# Altium schematic symbol library Howard.SchLib: 217 symbols (part 2 of 5)
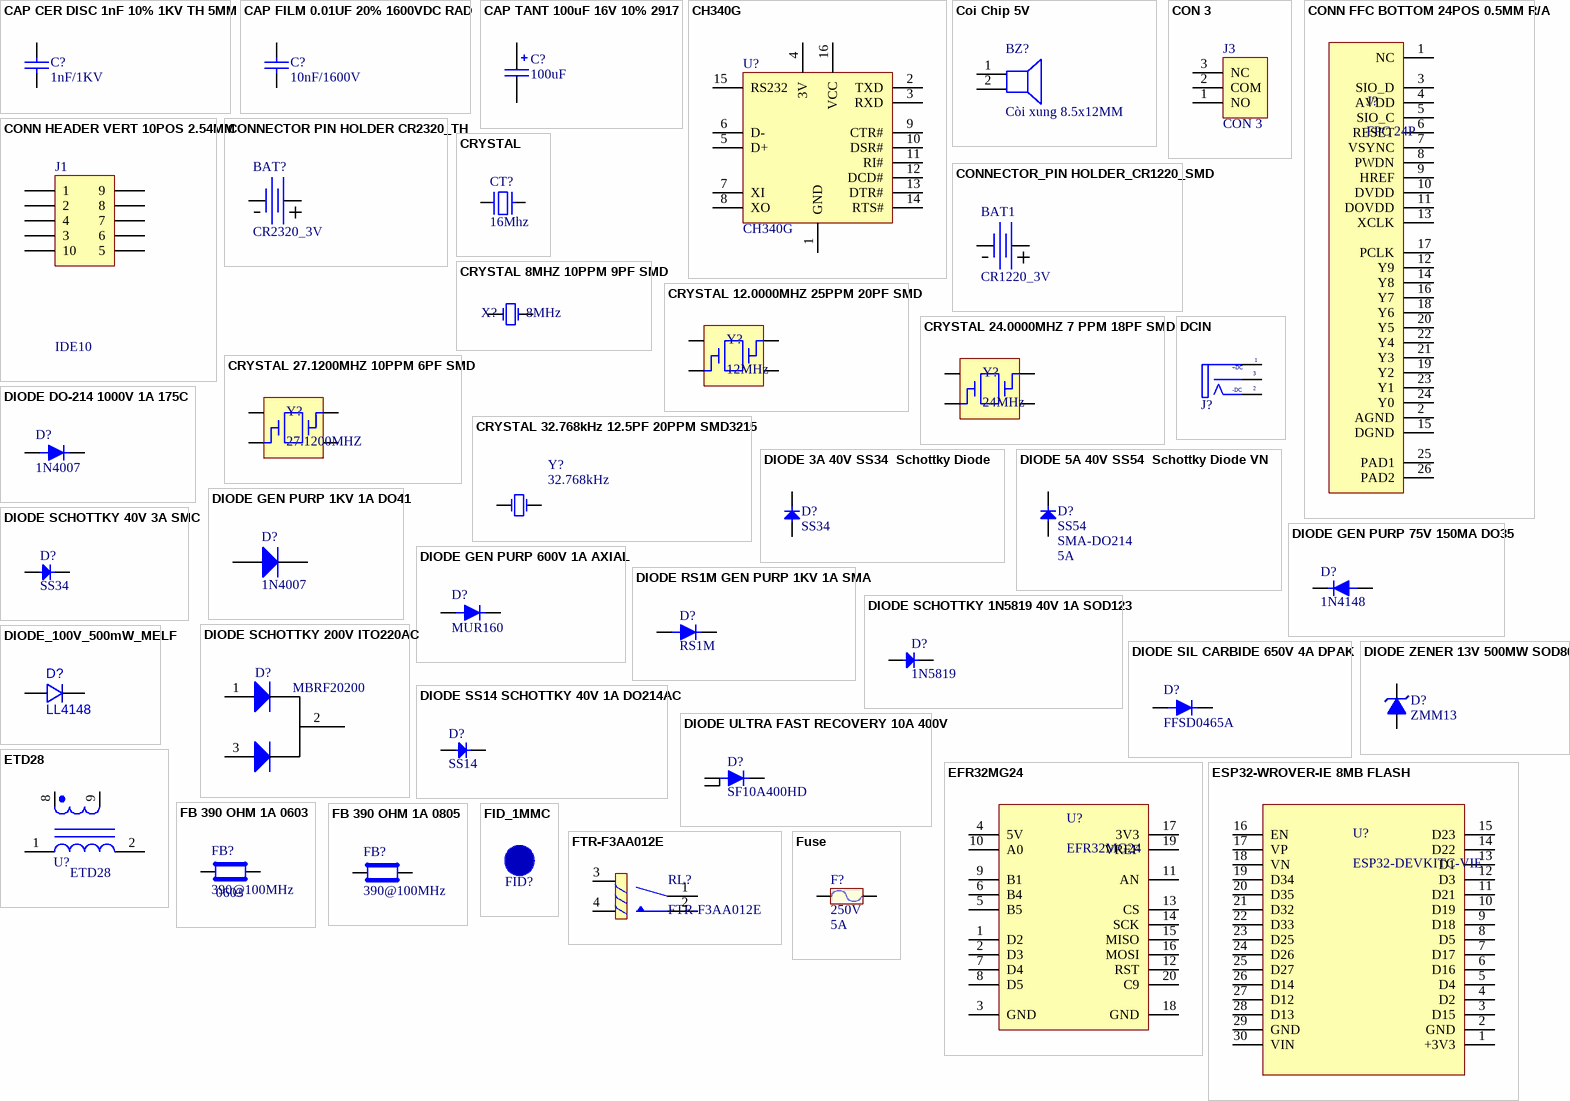
[diagram p8: symbols CAP CER DISC 1nF 10% 1KV TH 5MM to Fuse]

## CRYSTAL 12.0000MHZ 25PPM 20PF SMD
designator Y?, comment 12MHz
Crystal 12MHz ±25ppm (Tol) ±50ppm (Stability) 20pF FUND 100Ohm 4-Pin Mini-CSMD T/R; Manufacturer: ECS International; Manufacturer Part Number: ECS-120-20-33-AEL-TR; Supplier 1: Digi-Key; Stock 1: 58874; Pricing 1: 1=0.37, 10=0.306, 50=0.275, 100=0.2444, 500=0.2322 (USD); RoHS Compliant: Yes; ComponentLink1URL: http://www.ecsxtal.com/store/pdf/ecx-32.pdf?src-supplier=Digi-Key; ComponentLink1Description: http://www.ecsxtal.com/store/pdf/ecx-32.pdf?src-supplier=Digi-Key; ComponentLink2URL: https://ecsxtal.com/store/pdf/ecx-32.pdf?src-supplier=Digi-Key; ComponentLink2Description: https://ecsxtal.com/store/pdf/ecx-32.pdf?src-supplier=Digi-Key; Supplier Part Number 1: XC2911CT-ND
footprint CRYSTALL_SMD_3225
pins: 1, 2, 3, 4

## CRYSTAL 24.0000MHZ 7 PPM 18PF SMD
designator Y?, comment 24MHz
Crystal 24MHz ±7ppm (Tol) ±10ppm (Stability) 18pF FUND 40Ohm 4-Pin Mini-CSMD T/R; Manufacturer: ECS International; Manufacturer Part Number: ECS-240-18-33B-7KM-TR; Supplier 1: Digi-Key; Stock 1: 5006; Pricing 1: 1=0.31, 10=0.258, 50=0.2318, 100=0.206, 500=0.19574 (USD); Supplier Part Number 1: 50-ECS-240-18-33B-7KM-DKR-ND
footprint CRYSTALL_SMD_3225
pins: 1, 2, 3, 4

## CRYSTAL 27.1200MHZ 10PPM 6PF SMD
designator Y?, comment 27.1200MHZ
Crystal 27.12MHz ±10ppm (Tol) ±10ppm (Stability) 6pF FUND 100Ohm 4-Pin SMD T/R; Manufacturer: Abracon; Manufacturer Part Number: ABM11W-27.1200MHZ-6-B1U-T3; Supplier 1: Digi-Key; Stock 1: 373; Pricing 1: 1=0.79, 10=0.697, 50=0.6514, 100=0.5757, 500=0.5454, 1000=0.4545 (USD); Supplier Part Number 1: 535-ABM11W-27.1200MHZ-6-B1U-T3DKR-ND
footprint CRYSTAL-XRCGB27M120F3M10R0 (2x1.6) (Crystal 2x1.6mm)
footprint CRYSTALL_SMD_3225
pins: 1, 2, 3, 4

## CRYSTAL 32.768kHz 12.5PF 20PPM SMD3215
designator Y?, comment 32.768kHz
CRYSTAL_32.768kHz_12.5PF_20PPM_SMD3215; Manufacturer: Seiko Epson; Manufacturer PN: FC-135 32.7680KA-A; Datasheet Link: https://datasheet.lcsc.com/lcsc/2304140030_Seiko-Epson-FC-135-32-7680KA-A_C1669857.pdf; Distributor: LCSC; Distributor PN: C1669857; Price: $0.2274; Sale Link: https://www.lcsc.com/product-detail/Crystals_Seiko-Epson-FC-135-32-7680KA-A_C1669857.html; Value: 32.768kHz
footprint CRYSTALL_SMD_3215
pins: 1 OSC1, 2 OSC2

## DCIN
designator J?  (value not drawn)
CONN POWER JACK 2.1X5.5MM SMD
footprint DC0_SMD (Jac DC input)
pins: 1 T "Tip", 2 TN "Tip Normal (Break Contact)", 3 S (power) "Sleeve (Ground)"
text: +DC; -DC

## DIODE 3A 40V SS34  Schottky Diode
designator D?, comment SS34
SS34 SMA/DO-124AC 5A 40V Schottky Barrier (1N5824) VN; Package: SMA-DO214; Current: 5A
footprint SMA (DO-214AC) (Molded Diode, 2-Leads, Body 5.3x2.8mm, IPC Medium Density)
pins: 1 A, 2 K

## DIODE 5A 40V SS54  Schottky Diode VN
designator D?, comment SS54  Package: SMA-DO214  Current: 5A
SS54 SMA/DO-124AC 5A 40V Schottky Barrier (1N5824) VN
footprint SMA (DO-214AC) (Molded Diode, 2-Leads, Body 5.3x2.8mm, IPC Medium Density)
pins: 1 A, 2 K

## DIODE DO-214 1000V 1A 175C
designator D?, comment 1N4007
DIODE DO-214 1000V 1A 175C; Manufacturer: ON Semiconductor / Fairchild; Forward Voltage: 1.1V; Max Repetitive Reverse Voltage (Vrrm): 1kV; Peak Non-Repetitive Surge Current: 30A; Element Configuration: Single; Max Reverse Current: 5uA; Polarity: Standard; Capacitance: 15pF; Power Dissipation: 3W; Supplier 1: Digi-Key; Manufacturer Part Number: 1N4007; Stock 1: 0; Mount: Through Hole; Case/Package: DO-41; Number of Pins: 2; Weight: 0.245g; Contact Plating: Tin,Matte; Min Operating Temperature: -55°C; Max Operating Temperature: 175°C; Packaging: Tape and Reel; Forward Current: 1A; Max Forward Surge Current (Ifsm): 30A; Voltage Rating (DC): 1kV; Current Rating: 1A; Output Current: 1A; Max Surge Current: 30A; Package Quantity: 1000; Average Rectified Current: 1A; Max Reverse Voltage (DC): 1kV; Reverse Voltage: 1kV; Series: -; Diameter: 2.72mm; Length: 5.21mm; Width: 2.72mm; Height: 2.72mm; Radiation Hardening: No; RoHS Compliant: Yes; REACH SVHC: No SVHC; Lead Free: Lead Free; ComponentLink1URL: http://www.farnell.com/datasheets/2288250.pdf?src-supplier=Newark; ComponentLink1Description: http://www.farnell.com/datasheets/2288250.pdf?src-supplier=Newark; ComponentLink2URL: http://www.onsemi.com/pub/Collateral/1N4001-D.PDF?src-supplier=Digi-Key; ComponentLink2Description: http://www.onsemi.com/pub/Collateral/1N4001-D.PDF?src-supplier=Digi-Key; ComponentLink3URL: http://www.fairchildsemi.com/datasheets/1N/1N4001.pdf?src-supplier=Digi-Key; ComponentLink3Description: http://www.fairchildsemi.com/datasheets/1N/1N4001.pdf?src-supplier=Digi-Key; Supplier Part Number 1: 1N4007FSTR-ND
footprint DIODE_DO214AC_SMA (Diode 2214AC- SMA type)
pins: 1 ANODE, 2 CATHODE

## DIODE GEN PURP 1KV 1A DO41
designator D?, comment 1N4007
Diode 1000 V 1A Through Hole DO-41; MPN: MRA4007T3G; Solder: SMT; Value: 1000V/1A; MFR: *
footprint DIODE_DO214AC_SMA (Diode 2214AC- SMA type)
pins: 1 A, 2 K

## DIODE GEN PURP 75V 150MA DO35
designator D?, comment 1N4148
DIODE GEN PURP 75V 150MA DO35
footprint SOD-323
pins: 1 ANODE, 2 CATHODE

## DIODE GEN PURP 600V 1A AXIAL
designator D?, comment MUR160
Diode 600 V 1A Through Hole Axial; MPN: MRA4007T3G; Solder: SMT; Value: 1000V/1A; MFR: *
footprint DIO-2A-ZEN
footprint DIO-1AN (Diode 1A, W 100mil, L 150mil)
pins: 1 ANODE, 2 CATHODE

## DIODE RS1M GEN PURP 1KV 1A SMA
designator D?, comment RS1M
Rectifier Diode, 1 Phase, 1 Element, 1A, 1000V V(RRM), Silicon, DO-214AC; Manufacturer: ON Semiconductor / Fairchild; Max Repetitive Reverse Voltage (Vrrm): 1kV; Forward Voltage: 1.3V; Max Reverse Current: 5uA; Polarity: Standard; Max Surge Current: 30A; Reverse Recovery Time: 500ns; Capacitance: 10pF; Power Dissipation: 1.19W; Supplier 1: Future Electronics; Manufacturer Part Number: RS1M; RoHS: Yes; Category: Rectifier Diodes; Stock 1: 3721; Pricing 1: 1=0.305, 20=0.24, 125=0.199, 750=0.159, 4000=0.121 (USD); Mount: Surface Mount; Case/Package: DO-214AC; Number of Pins: 2; Min Operating Temperature: -55°C; Max Operating Temperature: 150°C; Packaging: Tape and Reel; Series: -; Package Quantity: 7500; Average Rectified Current: 1A; Output Current: 1A; Max Reverse Voltage (DC): 1kV; Forward Current: 1A; Voltage Rating (DC): 1kV; Current Rating: 1A; Max Forward Surge Current (Ifsm): 30A; Peak Non-Repetitive Surge Current: 30A; Recovery Time: 500ns; Reverse Voltage: 1kV; Current: 1A; Voltage: 1kV; Length: 4.75mm; Width: 2.95mm; Height: 2.2mm; Radiation Hardening: No; RoHS Compliant: Yes; Lead Free: Lead Free; Reach SVHC Compliant: No; Supplier Part Number 1: 5134861
footprint DIODE_DO214AC_SMA (Diode 2214AC- SMA type)
pins: 1 ANODE, 2 CATHODE

## DIODE SCHOTTKY 1N5819 40V 1A SOD123
designator D?, comment 1N5819
Schottky Diode, DO-15, 40V, 1.00A; Manufacturer: ON Semiconductor / Fairchild; Polarity: Standard; Current Rating: 1A; Capacitance: 110pF; Forward Voltage: 600mV; Max Surge Current: 25A; Max Reverse Current: 500uA; Element Configuration: Single; Supplier 1: Avnet; Manufacturer Part Number: 1N5819; RoHS: Yes; Category: Schottky Diodes; Stock 1: 10867; Pricing 1: 47=7.9032, 50=7.6896, 100=7.476, 240=7.2624, 470=7.0488, 2400=6.8352, 4700=6.6216 (USD); Mount: Through Hole; Case/Package: DO-41; Number of Pins: 2; Weight: 0.245g; Min Operating Temperature: -65°C; Max Operating Temperature: 125°C; Packaging: Tape and Reel; Voltage Rating (DC): 40V; Output Current: 1A; Package Quantity: 5000; Forward Current: 1A; Average Rectified Current: 1A; Max Reverse Voltage (DC): 40V; Max Reverse Leakage Current: 500uA; Max Repetitive Reverse Voltage (Vrrm): 40V; Max Forward Surge Current (Ifsm): 25A; Series: -; Peak Non-Repetitive Surge Current: 25A; Diameter: 2.72mm; Length: 5.2mm; Width: 2.72mm; Height: 2.72mm; Reach SVHC Compliant: No; Lead Free: Lead Free; RoHS Compliant: Yes; ComponentLink1URL: https://datasheet.ciiva.com/34302/1200637-34302074.pdf?src-supplier=Jameco; ComponentLink1Description: https://datasheet.ciiva.com/34302/1200637-34302074.pdf?src-supplier=Jameco; ComponentLink2URL: https://datasheet.ciiva.com/4719/1n5817-d-103200-4719059.pdf?src-supplier=Mouser; ComponentLink2Description: https://datasheet.ciiva.com/4719/1n5817-d-103200-4719059.pdf?src-supplier=Mouser; ComponentLink3URL: https://datasheet.ciiva.com/8300/1n5819-8300426.pdf?src-supplier=Avnet; ComponentLink3Description: https://datasheet.ciiva.com/8300/1n5819-8300426.pdf?src-supplier=Avnet; ComponentLink4URL: https://datasheet.ciiva.com/1177/1671052-1177084.pdf?src-supplier=Element14; ComponentLink4Description: https://datasheet.ciiva.com/1177/1671052-1177084.pdf?src-supplier=Element14; ComponentLink5URL: https://datasheet.ciiva.com/22651/1671052-22651942.pdf?src-supplier=Element14; ComponentLink5Description: https://datasheet.ciiva.com/22651/1671052-22651942.pdf?src-supplier=Element14; ComponentLink6URL: https://datasheet.ciiva.com/25951/1n5819-25951350.pdf?; ComponentLink6Description: https://datasheet.ciiva.com/25951/1n5819-25951350.pdf?; Supplier Part Number 1: 1N5819
footprint SOD-123 (SOD123, 2-Leads, Body 2.6x1.6mm, Pitch 3.05mm, IPC High Density)
pins: 1 A, 2 K

## DIODE SCHOTTKY 40V 3A SMC
designator D?, comment SS34
SS Series 500 mV 3 A 40 V Max Reverse Voltage Schottky Rectifier - DO-214AB; Manufacturer: Taiwan Semiconductor; Element Configuration: Single; Forward Current: 3A; Max Repetitive Reverse Voltage (Vrrm): 40V; Polarity: Standard; Max Reverse Current: 500uA; Max Surge Current: 100A; Supplier 1: Digi-Key; Manufacturer Part Number: SS34; Stock 1: 0; Pricing 1: 3000=0.20021, 6000=0.18729, 15000=0.1863 (USD); Mount: Surface Mount; Case/Package: SMC; Number of Pins: 2; Min Operating Temperature: -55°C; Max Operating Temperature: 125°C; Packaging: Tape and Reel; Voltage Rating (DC): 40V; Current Rating: 3A; Output Current: 3A; Package Quantity: 3000; Max Reverse Leakage Current: 500uA; Peak Non-Repetitive Surge Current: 100A; Lead Free: Lead Free; RoHS Compliant: Yes; Reach SVHC Compliant: Yes; ComponentLink1URL: http://datasheet.octopart.com/SS34-Taiwan-Semiconductor-datasheet-34355611.pdf?src-supplier=Digi-Key; ComponentLink1Description: http://datasheet.octopart.com/SS34-Taiwan-Semiconductor-datasheet-34355611.pdf?src-supplier=Digi-Key; ComponentLink2URL: https://datasheet.octopart.com/SS34-Taiwan-Semiconductor-datasheet-13721713.pdf?src-supplier=Farnell; ComponentLink2Description: https://datasheet.octopart.com/SS34-Taiwan-Semiconductor-datasheet-13721713.pdf?src-supplier=Farnell; ComponentLink3URL: https://datasheet.octopart.com/SS34-Taiwan-Semiconductor-datasheet-68472394.pdf?src-supplier=Element14; ComponentLink3Description: https://datasheet.octopart.com/SS34-Taiwan-Semiconductor-datasheet-68472394.pdf?src-supplier=Element14; ComponentLink4URL: https://datasheet.octopart.com/SS34-Taiwan-Semiconductor-datasheet-8823.pdf?src-supplier=Mouser; ComponentLink4Description: https://datasheet.octopart.com/SS34-Taiwan-Semiconductor-datasheet-8823.pdf?src-supplier=Mouser; ComponentLink5URL: http://datasheet.octopart.com/SS34-Taiwan-Semiconductor-datasheet-34355611.pdf?src-supplier=Avnet; ComponentLink5Description: http://datasheet.octopart.com/SS34-Taiwan-Semiconductor-datasheet-34355611.pdf?src-supplier=Avnet; ComponentLink6URL: http://datasheet.octopart.com/SS34-Taiwan-Semiconductor-datasheet-34355611.pdf?src-supplier=Onlinecomponents.com; ComponentLink6Description: http://datasheet.octopart.com/SS34-Taiwan-Semiconductor-datasheet-34355611.pdf?src-supplier=Onlinecomponents.com; Supplier Part Number 1: 1801-SS34TR-ND
footprint SMA (DO-214AC) (Molded Diode, 2-Leads, Body 5.3x2.8mm, IPC Medium Density)
pins: 1 A, 2 K

## DIODE SCHOTTKY 200V ITO220AC
designator D?, comment MBRF20200
ON Semi MBRF20200CTG; Dual Schottky Diode; Common Cathode; 200V 20A; 3-Pin TO-220; Manufacturer: ON Semiconductor; Average Rectified Current: 10A; Max Forward Surge Current (Ifsm): 150A; Max Reverse Current: 1mA; Forward Voltage: 1V; Published: 8-Jun-2000; LatestRevisionDate: 17-Jul-2002; LatestRevisionNote: Re-released for DXP Platform.; DatasheetDocument: 1997; PackageReference: DO-35; Publisher: Altium Limited; Code_JEDEC: DO-204-AH; ComponentLink1Description: Manufacturer Link; ComponentLink1URL: http://www.fairchildsemi.com/; ComponentLink2Description: Datasheet; ComponentLink2URL: http://www.fairchildsemi.com/ds/1N%2F1N4448.pdf; Supplier 1: Arrow Electronics; Manufacturer Part Number: MBRF20200CTG; RoHS: Yes; Category: Schottky Diodes; Stock 1: 200; Pricing 1: 1=2.3958, 10=1.7671, 100=1.616, 500=1.2362, 1000=1.0147, 2600=0.9718, 5200=0.9371 (USD); Case/Package: TO-220-3; Number of Pins: 3; Min Operating Temperature: -65°C; Max Operating Temperature: 150°C; Packaging: Rail/Tube; Max Reverse Voltage (DC): 200V; Series: SWITCHMODE™; Forward Current: 20A; Package Quantity: 50; Max Repetitive Reverse Voltage (Vrrm): 200V; Element Configuration: Common Cathode; Peak Non-Repetitive Surge Current: 150A; Current Rating: 20A; Voltage Rating (DC): 200V; Length: 10.63mm; Width: 4.9mm; Height: 16.12mm; Radiation Hardening: No; RoHS Compliant: Yes; Reach SVHC Compliant: No; Lead Free: Lead Free; ComponentLink3URL: https://datasheet.ciiva.com/909/mbrf20200ct-d-909895.pdf?src-supplier=Avnet; ComponentLink3Description: https://datasheet.ciiva.com/909/mbrf20200ct-d-909895.pdf?src-supplier=Avnet; ComponentLink4URL: https://datasheet.ciiva.com/30479/0900766b812769c3-30479184.pdf?src-supplier=Rs; ComponentLink4Description: https://datasheet.ciiva.com/30479/0900766b812769c3-30479184.pdf?src-supplier=Rs; ComponentLink5URL: https://datasheet.ciiva.com/27050/791210-27050074.pdf?src-supplier=Jameco; ComponentLink5Description: https://datasheet.ciiva.com/27050/791210-27050074.pdf?src-supplier=Jameco; ComponentLink6URL: https://datasheet.ciiva.com/4714/mbrf20200ct-d-107166-4714637.pdf?src-supplier=Mouser; ComponentLink6Description: https://datasheet.ciiva.com/4714/mbrf20200ct-d-107166-4714637.pdf?src-supplier=Mouser; ComponentLink7URL: https://datasheet.ciiva.com/906/mbrf20200ct-d-906731.pdf?src-supplier=Digi-Key; ComponentLink7Description: https://datasheet.ciiva.com/906/mbrf20200ct-d-906731.pdf?src-supplier=Digi-Key; Supplier Part Number 1: MBRF20200CTG
footprint TO-220
pins: 1 A, 2 K, 3 A

## DIODE SIL CARBIDE 650V 4A DPAK
designator D?, comment FFSD0465A
Sic Schottky Diode, 650V, 4A, To-252 Rohs Compliant: Yes; Manufacturer: WeEn Semiconductors; Manufacturer Part Number: WNSC2D04650DJ; Supplier 1: Digi-Key; Stock 1: 5254; Pricing 1: 1=1.29, 10=1.155, 100=0.9002, 500=0.74366, 1000=0.5871 (USD); Supplier Part Number 1: 1740-WNSC2D04650DJCT-ND
footprint TO-252 - sic (TO252, 4-Leads, Body 6.7x10.4mm (max), Pitch 2.28mm, IPC Medium Density)
pins: 1 CATHODE, 2 ANODE

## DIODE SS14 SCHOTTKY 40V 1A DO214AC
designator D?, comment SS14
SS14 Series 500 mV 1 A 40 V Max Reverse Voltage Schottky Rectifier - DO-214AC; Manufacturer: ON Semiconductor / Fairchild; Number of Terminals/Pins: 2; Element Configuration: Single; Forward Current: 1A; Forward Voltage: 500mV; Max Repetitive Reverse Voltage (Vrrm): 40V; Max Reverse Current: 200uA; Max Forward Surge Current (Ifsm): 40A; Polarity: Standard; Number of Elements: 1; Max Power Dissipation: 1.1W; Supplier 1: Digi-Key; Manufacturer Part Number: SS14; Stock 1: 27918; Pricing 1: 1=0.51, 10=0.377, 100=0.2132, 500=0.1412, 1000=0.10825, 2000=0.09413 (USD); Mount: Surface Mount; Case/Package: DO-214AC; Number of Pins: 2; Weight: 0.003739oz; Min Operating Temperature: -65°C; Max Operating Temperature: 125°C; Packaging: Tape and Reel; Peak Non-Repetitive Surge Current: 40A; Package Quantity: 7500; Current Rating: 1A; Voltage Rating (DC): 40V; Output Current: 1A; Series: -; Average Rectified Current: 1A; Termination: SMD/SMT; Current: 1A; Voltage: 40V; Max Reverse Voltage (DC): 40V; Power Dissipation: 1.1W; Length: 4.75mm; Width: 2.95mm; Height: 2.2mm; Radiation Hardening: No; RoHS Compliant: Yes; Lead Free: Lead Free; Reach SVHC Compliant: Yes; ComponentLink1URL: https://datasheet.ciiva.com/4713/ss14-197224-4713938.pdf?src-supplier=Mouser; ComponentLink1Description: https://datasheet.ciiva.com/4713/ss14-197224-4713938.pdf?src-supplier=Mouser; ComponentLink2URL: https://datasheet.ciiva.com/910/ss12-910695.pdf?src-supplier=Digi-Key; ComponentLink2Description: https://datasheet.ciiva.com/910/ss12-910695.pdf?src-supplier=Digi-Key; ComponentLink3URL: https://datasheet.ciiva.com/910/ss12-910696.pdf?src-supplier=Digi-Key; ComponentLink3Description: https://datasheet.ciiva.com/910/ss12-910696.pdf?src-supplier=Digi-Key; ComponentLink4URL: https://datasheet.ciiva.com/910/ss12-910697.pdf?src-supplier=Digi-Key; ComponentLink4Description: https://datasheet.ciiva.com/910/ss12-910697.pdf?src-supplier=Digi-Key; ComponentLink5URL: https://datasheet.ciiva.com/7965/1766303-7965241.pdf?src-supplier=Element14; ComponentLink5Description: https://datasheet.ciiva.com/7965/1766303-7965241.pdf?src-supplier=Element14; ComponentLink6URL: https://datasheet.ciiva.com/8303/ss19-8303766.pdf?src-supplier=Avnet; ComponentLink6Description: https://datasheet.ciiva.com/8303/ss19-8303766.pdf?src-supplier=Avnet; ComponentLink7URL: https://datasheet.ciiva.com/22651/1880990-22651980.pdf?src-supplier=Element14; ComponentLink7Description: https://datasheet.ciiva.com/22651/1880990-22651980.pdf?src-supplier=Element14; Supplier Part Number 1: SS14CT-ND
footprint SMA (DO-214AC) (Molded Diode, 2-Leads, Body 5.3x2.8mm, IPC Medium Density)
pins: 1 A, 2 K

## DIODE ULTRA FAST RECOVERY 10A 400V
designator D?, comment SF10A400HD
DIODE ULTRA FAST RECOVERY POWER RECTIFIER
footprint TO-252 (TO252, 4-Leads, Body 6.7x10.4mm (max), Pitch 2.28mm, IPC Medium Density)
pins: 1 ANODE, 2 CATHODE, 3 ANODE

## DIODE ZENER 13V 500MW SOD80C
designator D?, comment ZMM13
Zener Diode, SOD-80, 13V, 0.500W, 5%; Manufacturer: Diotec; Impedance: 26R; Power Dissipation: 500mW; Supplier 1: Mouser; Manufacturer Part Number: ZMM13; RoHS: Yes; Category: Zener Diodes; Stock 1: 12000; Pricing 1: 1=0.26, 10=0.15, 50=0.15, 100=0.108, 1000=0.075, 10000=0.035 (USD); Min Operating Temperature: -50°C; Max Operating Temperature: 175°C; Zener Voltage: 13V; Tolerance: 5%; RoHS Compliant: Yes; ComponentLink1URL: https://datasheet.ciiva.com/48483/zmm1-zmm75-eng-tds-48483739.pdf?src-supplier=Distrelec; ComponentLink1Description: https://datasheet.ciiva.com/48483/zmm1-zmm75-eng-tds-48483739.pdf?src-supplier=Distrelec; Supplier Part Number 1: 637-ZMM13
footprint SOD-80C
pins: 1 A, 2 K

## DIODE_100V_500mW_MELF
designator D?, comment Manufacturer Part Number 1: LL4148  (hidden comment: Mini MELF)
Diode SMD 100V 150mA 500mW SOD80; Manufacturer 1: Fairchild Semiconductor; Ratings: 100V; 150mA min; 500mW; Material: Si; Diode Type: Standard; Value: Vf=1V @ 10mA; SCDType: source; Package / Case: SOD80, LL-34; Manufacturer 2: DC Components; Manufacturer Part Number 2: DL4148; Supplier 1: Digi-Key; Supplier Part Number 1: LL4148FSCT-ND
footprint SOD80
pins: 1 A, 2 K

## EFR32MG24
designator U?
footprint EFR
pins: 1 D2, 2 D3, 3 GND, 4 5V, 5 B5, 6 B4, 7 D4, 8 D5, 9 B1, 10 A0, 11 AN, 12 RST, 13 CS, 14 SCK, 15 MISO, 16 MOSI, 17 3V3, 18 GND, 19 VREF, 20 C9

## ESP32-WROVER-IE 8MB FLASH
designator U?, comment ESP32-DEVKITC-VIE
- ESP32-WROVER-IE Transceiver; 802.11 b/g/n (Wi-Fi, WiFi, WLAN), Bluetooth® Smart Ready 4.x Dual Mode 2.4GHz Evaluation Board; Manufacturer: Espressif Systems; Supplier 1: Digi-Key; Manufacturer Part Number: ESP32-DEVKITC-VIE; Stock 1: 576; Pricing 1: 1=11 (USD); Series: -; Frequency: 2.4GHz; ComponentLink1URL: https://datasheet.octopart.com/ESP32-DEVKITC-VIE-Espressif-Systems-datasheet-165560559.pdf?src-supplier=TME; ComponentLink1Description: https://datasheet.octopart.com/ESP32-DEVKITC-VIE-Espressif-Systems-datasheet-165560559.pdf?src-supplier=TME; Supplier Part Number 1: 1965-ESP32-DEVKITC-VIE-ND
footprint MODULE_ESP32_DEVKIT_V1
pins: 1 +3V3, 2 GND, 3 D15, 4 D2, 5 D4, 6 D16, 7 D17, 8 D5, 9 D18, 10 D19, 11 D21, 12 D3, 13 D1, 14 D22, 15 D23, 16 EN, 17 VP, 18 VN, 19 D34, 20 D35, 21 D32, 22 D33, 23 D25, 24 D26, 25 D27, 26 D14, 27 D12, 28 D13, 29 GND, 30 VIN

## ETD28
designator U?
footprint ETD28
pins: 1, 2, 8, 9

## FB 390 OHM 1A 0603
designator FB?, comment 390@100MHz  Case Code (Imperial): 0603
Ferrite Beads Multi-Layer Power 390Ohm 25% 100MHz 1A 140mOhm DCR 0603 T/R; Manufacturer: Taiyo Yuden; Manufacturer Part Number: BKP1608HS391-T; Impedance: 390R; DC Resistance (DCR): 140mR; Number of Lines: 1; Shielding: Unshielded; BY: Hieu.Nguyen; Supplier 1: Digi-Key; Stock 1: 3038; Pricing 1: 1=0.1, 10=0.079, 25=0.072, 50=0.0648, 100=0.0476, 250=0.0346, 500=0.0317, 1000=0.02738 (USD); Mount: Surface Mount; Case/Package: 0603; Number of Pins: 2; Core Material: Ferrite; Case Code (Metric): 1608; Min Operating Temperature: -55°C; Max Operating Temperature: 85°C; Packaging: Tape and Reel; Tolerance: 25%; Max DC Current: 1A; Package Quantity: 1; Termination: SMD/SMT; Test Frequency: 100MHz; Resistance: 140mR; Series: BK; Length: 0.063inch; Width: 0.8mm; Height: 0.037inch; Depth: 0.95mm; RoHS Compliant: Yes; Lead Free: Lead Free; Halogen Free: Halogen Free; REACH SVHC: No SVHC; ComponentLink1URL: http://www.farnell.com/datasheets/1734577.pdf?src-supplier=Farnell; ComponentLink1Description: http://www.farnell.com/datasheets/1734577.pdf?src-supplier=Farnell; ComponentLink2URL: http://www.farnell.com/datasheets/1734577.pdf?src-supplier=Element14; ComponentLink2Description: http://www.farnell.com/datasheets/1734577.pdf?src-supplier=Element14; ComponentLink3URL: https://ds.yuden.co.jp/TYCOMPAS/ut/detail?pn=BKP1608HS391-T  &amp;u=M&src-supplier=Digi-Key; ComponentLink3Description: https://ds.yuden.co.jp/TYCOMPAS/ut/detail?pn=BKP1608HS391-T  &amp;u=M&src-supplier=Digi-Key; ComponentLink4URL: http://ds.yuden.co.jp/TYCOMPAS/ut/detail.do?productNo=BKP1608HS391-T&fileName=BKP1608HS391-T_SS&mode=specSheetDownload&src-supplier=Digi-Key; ComponentLink4Description: http://ds.yuden.co.jp/TYCOMPAS/ut/detail.do?productNo=BKP1608HS391-T&fileName=BKP1608HS391-T_SS&mode=specSheetDownload&src-supplier=Digi-Key; Supplier Part Number 1: 587-1927-6-ND; QA CHECK: *
footprint FB 0603
pins: 1, 2

## FB 390 OHM 1A 0805
designator FB?, comment 390@100MHz
Ferrite Beads Multi-Layer Power 390Ohm 25% 100MHz 1A 140mOhm DCR 0805 T/R; Manufacturer: Taiyo Yuden; Manufacturer Part Number: BKP1608HS391-T; Impedance: 390R; DC Resistance (DCR): 140mR; Number of Lines: 1; Shielding: Unshielded; BY: Hieu.Nguyen; Supplier 1: Digi-Key; Stock 1: 3038; Pricing 1: 1=0.1, 10=0.079, 25=0.072, 50=0.0648, 100=0.0476, 250=0.0346, 500=0.0317, 1000=0.02738 (USD); Mount: Surface Mount; Case/Package: 0603; Number of Pins: 2; Core Material: Ferrite; Case Code (Metric): 1608; Min Operating Temperature: -55°C; Max Operating Temperature: 85°C; Packaging: Tape and Reel; Tolerance: 25%; Max DC Current: 1A; Package Quantity: 1; Termination: SMD/SMT; Test Frequency: 100MHz; Resistance: 140mR; Series: BK; Length: 0.063inch; Width: 0.8mm; Height: 0.037inch; Depth: 0.95mm; RoHS Compliant: Yes; Lead Free: Lead Free; Halogen Free: Halogen Free; REACH SVHC: No SVHC; ComponentLink1URL: http://www.farnell.com/datasheets/1734577.pdf?src-supplier=Farnell; ComponentLink1Description: http://www.farnell.com/datasheets/1734577.pdf?src-supplier=Farnell; ComponentLink2URL: http://www.farnell.com/datasheets/1734577.pdf?src-supplier=Element14; ComponentLink2Description: http://www.farnell.com/datasheets/1734577.pdf?src-supplier=Element14; ComponentLink3URL: https://ds.yuden.co.jp/TYCOMPAS/ut/detail?pn=BKP1608HS391-T  &amp;u=M&src-supplier=Digi-Key; ComponentLink3Description: https://ds.yuden.co.jp/TYCOMPAS/ut/detail?pn=BKP1608HS391-T  &amp;u=M&src-supplier=Digi-Key; ComponentLink4URL: http://ds.yuden.co.jp/TYCOMPAS/ut/detail.do?productNo=BKP1608HS391-T&fileName=BKP1608HS391-T_SS&mode=specSheetDownload&src-supplier=Digi-Key; ComponentLink4Description: http://ds.yuden.co.jp/TYCOMPAS/ut/detail.do?productNo=BKP1608HS391-T&fileName=BKP1608HS391-T_SS&mode=specSheetDownload&src-supplier=Digi-Key; Supplier Part Number 1: 587-1927-6-ND; QA CHECK: *; Case Code (Imperial): 0603; Max Current Rating: 1A
footprint FB 0805
pins: 1, 2

## FID_1MMC
designator FID?  (value not drawn)  (no BOM)
Fiducial 40mil Diameter, 120mil Mask; Supplier: Digikey
footprint FID_40X120D

## FTR-F3AA012E
designator RL?
Miniature Relay 3A, coil voltage 12V DC, make contact (1A), 3A/30V DC, 3A/125VAC; Manufacturer: Fujitsu; Contact Current Rating: 5A; Throw Configuration: SPST; Coil Resistance: 720R; Coil Current: 16.67mA; Operate Time: 10ms; Voltage Rating (AC): 277V; Voltage Rating (DC): 30V; Supplier 1: Mouser; Manufacturer Part Number: FTR-F3AA012E; Stock 1: 1473; Pricing 1: 1=1.38, 10=1.38, 50=1.16, 100=1.14, 1000=0.894, 10000=0.849 (USD); Number of Pins: 4; Contact Material: Silver; Min Operating Temperature: -40°C; Max Operating Temperature: 70°C; Termination: PC Pin; Coil Voltage (DC): 12V; Length: 20.3mm; Depth: 7mm; Radiation Hardening: No; RoHS Compliant: No; ComponentLink1URL: https://datasheet.ciiva.com/5234/ftr-f3-5234889.pdf?src-supplier=Mouser; ComponentLink1Description: https://datasheet.ciiva.com/5234/ftr-f3-5234889.pdf?src-supplier=Mouser; Supplier Part Number 1: 817-FTR-F3AA012E
footprint FTR-F3
pins: 1, 2, 3, 4

## Fuse
designator F?, comment Voltage - Rated: 250V  Current Rating (Amps): 5A  (hidden comment: 5A220V)
FUSE 220V 5A RADIAL; PROCESS_TYPE: MA; Unit: PCS; Response Time: 24S; Breaking Capacity @ Rated Voltage: 50A; DC Cold Resistance: 0.03 Ohms; Melting I²t: 0.919; CATEGORY: FUSE; Value: 5A220V; Package / Case: TH2
footprint FUSE_VERTICAL (R2W, 2 pin, 700mil)
pins: 1, 2

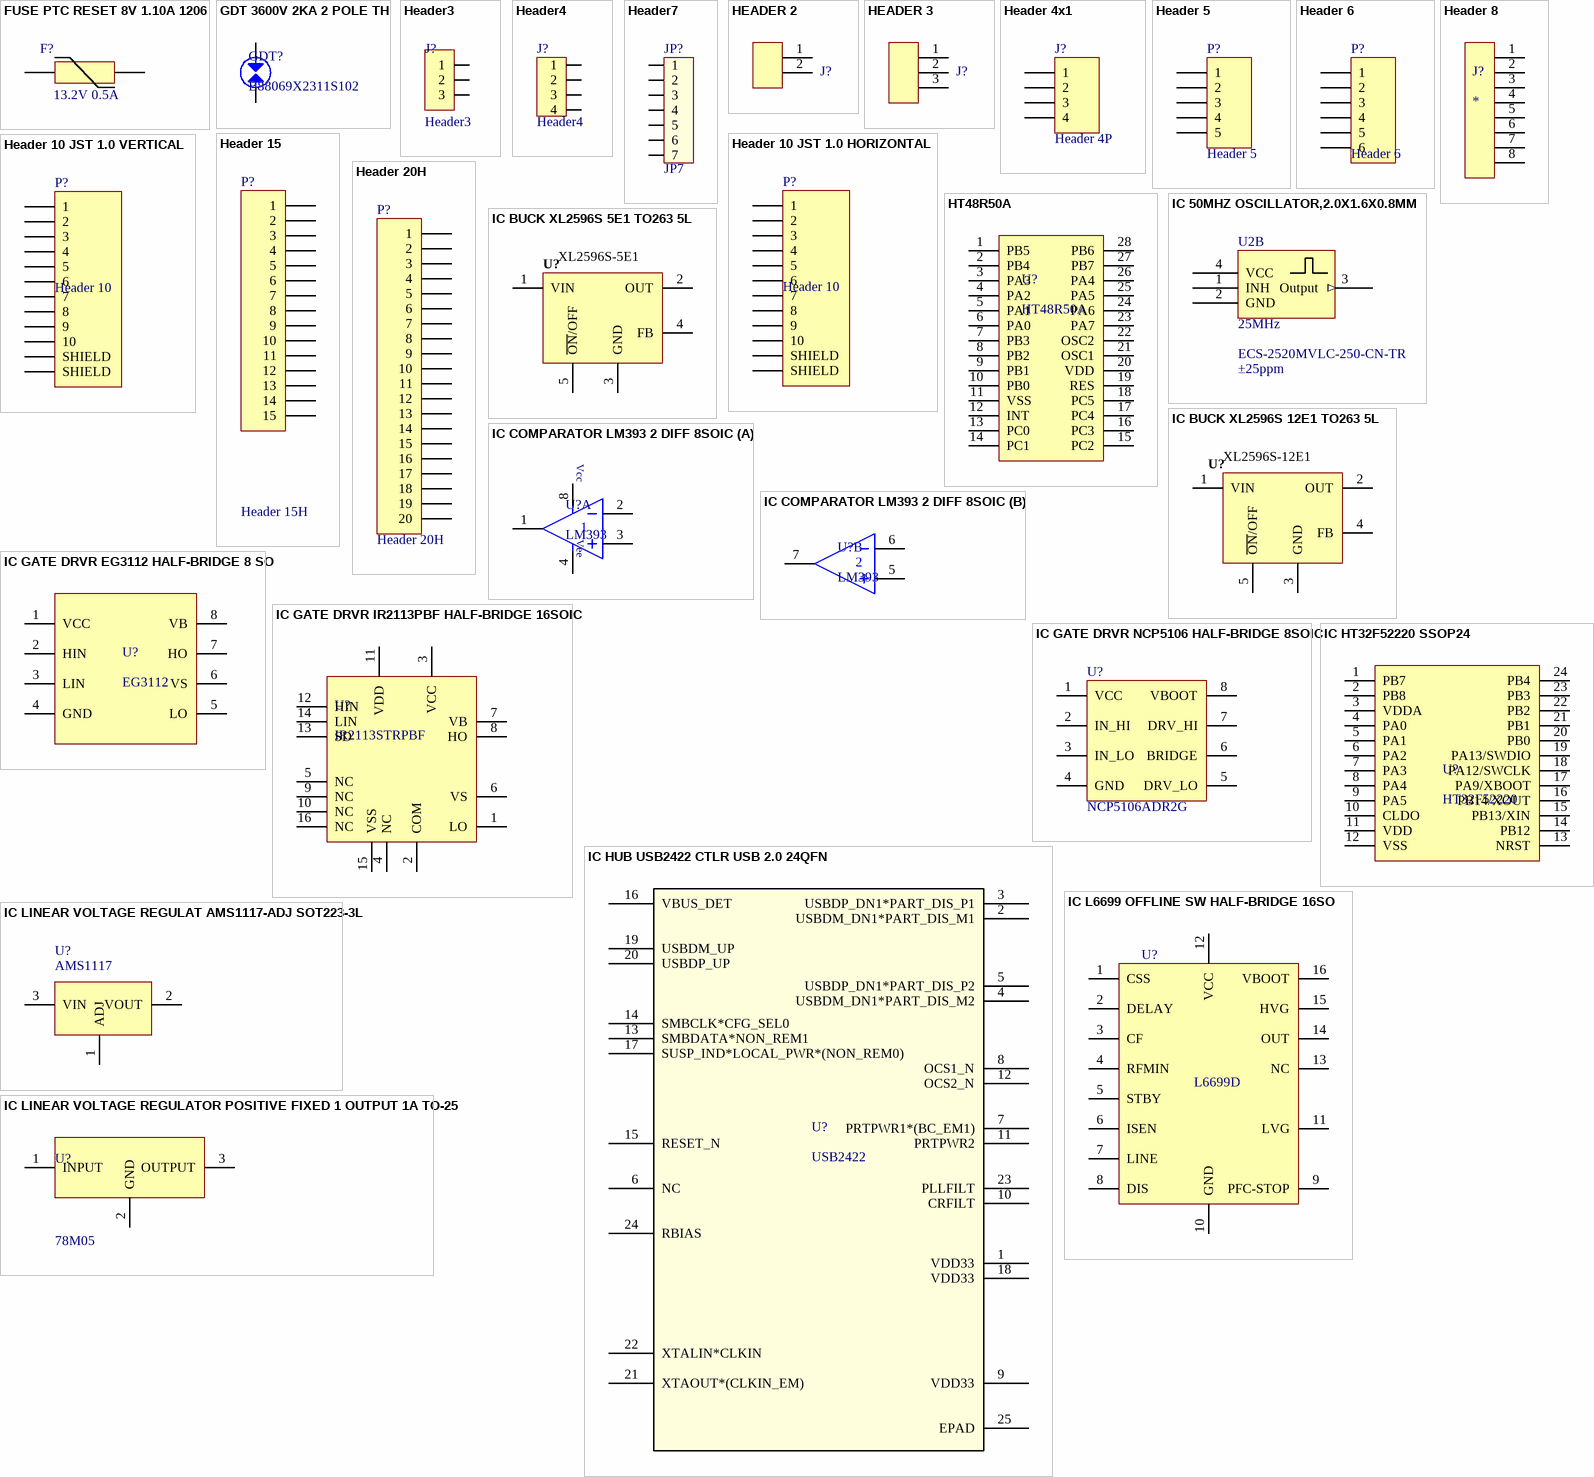
[diagram p2: symbols FUSE PTC RESET 8V 1.10A 1206 to IC LINEAR VOLTAGE REGULATOR POSITIVE FIXED 1 OUTPUT 1A TO-252]

## FUSE PTC RESET 8V 1.10A 1206
designator F?, comment 13.2V 0.5A
FUSE PTC RESET 8V 1.10A 1206; MPN: 1206L110THYR; CompanyID: VT-01102; Solder: SMT; Value: 8V/1.1A
footprint FUSE_1206(3216)HW
pins: 1, 2

## GDT 3600V 2KA 2 POLE TH
designator GDT?, comment B88069X2311S102
Gas Discharge Tube 3600 V 2000A (2kA) ±20% 2 Pole Through Hole; Manufacturer: TDK EPCOS; Number of Poles: 2; Insulation Resistance: 1GR; Fail Short: No; Supplier 1: Digi-Key; Manufacturer Part Number: B88069X2311S102; Stock 1: 1357; Pricing 1: 1=1.34, 5=1.302, 10=1.218, 50=1.0078, 100=0.8399, 250=0.81892, 500=0.69294, 1000=0.60894, 5000=0.54595 (USD); Mount: Through Hole; Case/Package: Axial; Contact Plating: Tin; Min Operating Temperature: -40°C; Max Operating Temperature: 90°C; Tolerance: 20%; Packaging: Bulk; Package Quantity: 100; Peak Pulse Current: 2kA; Series: EM3600X; Diameter: 5.5mm; Length: 6mm; RoHS Compliant: Yes; ComponentLink1URL: https://www.tdk-electronics.tdk.com/inf/100/ds/EM3600X-X2311xxxx.pdf?src-supplier=Digi-Key; ComponentLink1Description: https://www.tdk-electronics.tdk.com/inf/100/ds/EM3600X-X2311xxxx.pdf?src-supplier=Digi-Key; Supplier Part Number 1: 495-5855-ND
footprint GDT 7.6x7.6mm
pins: 1, 2

## Header3
designator J?
Header IDC, 3 x 1 Pin Vertical 2.54mm Pitch (Non-Boxed, Male); Manufacturer: W¨¹rth Elektronik eiSos GmbH; partNo: 613002143121; ComponentLink1 Description: Manufacturer; ComponentLink2 Description: Datasheet; NoPins: 02; Created Date: 29 March 2013; ComponentLink1URL: http://www.we-online.com; ComponentLink2URL: http://katalog.we-online.de/em/datasheet/6130xx143121.pdf; Created by: Karrer Zheng
footprint HDR1X3 (Connector; Header; 3 Position)
pins: 1, 2, 3

## Header4
designator J?
Header IDC, 4 x 1 Pin Vertical 2.54mm Pitch (Non-Boxed, Male); Manufacturer: W¨¹rth Elektronik eiSos GmbH; partNo: 613002143121; ComponentLink1 Description: Manufacturer; ComponentLink2 Description: Datasheet; NoPins: 02; Created Date: 29 March 2013; ComponentLink1URL: http://www.we-online.com; ComponentLink2URL: http://katalog.we-online.de/em/datasheet/6130xx143121.pdf; Created by: Karrer Zheng
footprint Header4 2.54mm (CON4)
pins: 1, 2, 3, 4

## Header7
designator JP?, comment JP7
Connector 7; Value: Connector 7
footprint Header7 (CON7)
footprint HEADER7 1mm
pins: 1, 2, 3, 4, 5, 6, 7

## HEADER 2
designator J?  (value not drawn)
footprint Header2 (CON2)
footprint CONN_HORIZONTAL_2 PIN 1mm
footprint CONN_VERTICAL_2 PIN 1mm
pins: 1, 2

## HEADER 3
designator J?  (value not drawn)
footprint CONN_HORIZONTAL_3 PIN 1mm
footprint CONN_VERTICAL_3 PIN 1mm
pins: 1, 2, 3

## Header 4x1
designator J?, comment Header 4P
Header, 4 Pin Pitch 2.54mm; MPN: S1012EC-40-ND; CompanyID: VT-00125; Solder: WAVE; Value: Header 4P
footprint HDR1X4H (Connector; Header; 4 Position)
footprint CONN_VERTICAL_4 PIN 1mm
footprint CONN_HORIZONTAL_4 PIN 1mm
pins: 1, 2, 3, 4

## Header 5
designator P?
Header, 5 Pin Pitch 1mm; MPN: S1012EC-40-ND; CompanyID: VT-00125; Solder: WAVE; Value: Header 5P
footprint HEADER5 1mm
footprint CONN_HORIZONTAL_5 PIN 1mm
footprint HDR1X5 (Connector; Header; 5 Position)
pins: 1, 2, 3, 4, 5

## Header 6
designator P?
Header, 6 Pin Pitch 1mm; MPN: S1012EC-40-ND; CompanyID: VT-00125; Solder: WAVE; Value: Header 5P
footprint CONN_VERTICAL_6 PIN 1mm
footprint CONN_HORIZONTAL_6 PIN 1mm
pins: 1, 2, 3, 4, 5, 6

## Header 8
designator J?
footprint HDR1X8 - W (0.1'' Header)
footprint CONN_VERTICAL_8 PIN 1mm
pins: 1, 2, 3, 4, 5, 6, 7, 8

## Header 10 JST 1.0 HORIZONTAL
designator P?, comment Header 10
Header, 10 Pin Pitch 1mm; MPN: S1012EC-40-ND; CompanyID: VT-00125; Solder: WAVE; Value: Header 5P
footprint CONN_HORIZONTAL_10 PIN 1mm
pins: 1, 2, 3, 4, 5, 6, 7, 8, 9, 10, 11 SHIELD, 12 SHIELD

## Header 10 JST 1.0 VERTICAL
designator P?, comment Header 10
Header, 10 Pin Pitch 1mm; MPN: S1012EC-40-ND; CompanyID: VT-00125; Solder: WAVE; Value: Header 5P
footprint CONN_VERTICAL_10 PIN 1mm
pins: 1, 2, 3, 4, 5, 6, 7, 8, 9, 10, 11 SHIELD, 12 SHIELD

## Header 15
designator P?, comment Header 15H
Header, 15-Pin, Right Angle; LatestRevisionDate: 17-Jul-2002; LatestRevisionNote: Re-released for DXP Platform.; Publisher: Altium Limited
footprint HDR1X15H (Connector; Header; 20 Position; Right Angle)
pins: 1, 2, 3, 4, 5, 6, 7, 8, 9, 10, 11, 12, 13, 14, 15

## Header 20H
designator P?
Header, 20-Pin, Right Angle; LatestRevisionDate: 17-Jul-2002; LatestRevisionNote: Re-released for DXP Platform.; Publisher: Altium Limited
footprint HDR1X20H (Connector; Header; 20 Position; Right Angle)
pins: 1, 2, 3, 4, 5, 6, 7, 8, 9, 10, 11, 12, 13, 14, 15, 16, 17, 18, 19, 20

## HT48R50A
designator U?
pins: 1 PB5, 2 PB4, 3 PA3, 4 PA2, 5 PA1, 6 PA0, 7 PB3, 8 PB2, 9 PB1, 10 PB0, 11 VSS, 12 INT, 13 PC0, 14 PC1, 15 PC2, 16 PC3, 17 PC4, 18 PC5, 19 RES, 20 VDD, 21 OSC1, 22 OSC2, 23 PA7, 24 PA6, 25 PA5, 26 PA4, 27 PB7, 28 PB6

## IC 50MHZ OSCILLATOR,2.0X1.6X0.8MM
designator U2B, comment value 25MHz  Frequency Stability: ±25ppm  (hidden comment: ECS-2520MVLC-250-CN-TR)
XTAL OSC XO 25MHZ CMOS SM; MANUFACTURER1: ECS; MANUFACTURER2_PART#: QTM252J-25.000MBJ-T; NI_MARK: NI; VOLTAGE: 1.6V ~ 3.6V; LOH_Code: *; Category: IC; MANUFACTURER2: QST; Packaging: 4-SMD; OUTPUT: CMOS; MANUFACTURER1_PART#: ECS-2520MVLC-250-CN-TR
footprint Crystal 4SMD 25x20MM
pins: 1 INH, 2 GND (power), 3 Output (out), 4 VCC (power)

## IC BUCK XL2596S 5E1 TO263 5L
designator U?, comment XL2596S-5E1
IC BUCK XL2596S 5E1 TO263 5L; Manufacturer PN: XL2596S-12E1; Manufacturer: XLSEMI; Datasheet: *; Distributor: LCSC; Distributor PN: C74191; Price: *; NI: *; Value: XL2596S-5E1
footprint TO263-5L (XL4015)
pins: 1 VIN (power), 2 OUT (power), 3 GND (power), 4 FB, 5 ~{ON}/OFF

## IC BUCK XL2596S 12E1 TO263 5L
designator U?, comment XL2596S-12E1
IC_BUCK_XL2596S-12E1_TO263-5L; Manufacturer: XLSEMI; Datasheet: *; Distributor: LCSC; Distributor PN: C74191; Manufacturer PN: XL2596S-12E1; Price: *; NI: *; Value: XL2596S-12E1
footprint TO263-5L (XL4015)
pins: 1 VIN (power), 2 OUT (power), 3 GND (power), 4 FB, 5 ~{ON}/OFF

## IC COMPARATOR LM393 2 DIFF 8SOIC
designator U?, comment LM393
IC COMP DUAL OFFSET LV 8SOIC; Manufacturer: ON Semiconductor; Manufacturer Part Number: LM393DR2G; Output Current: 16mA; Quiescent Current: 2.5mA; Number of Elements: 2; Input Bias Current: 250nA; Response Time: 1.3us; Output Type: TTL; Supply Current: 1mA; Max Supply Voltage: 36V; Min Supply Voltage: 2V; Min Dual Supply Voltage: 1V; Max Dual Supply Voltage: 18V; Voltage Gain: 106.02dB; Input Offset Voltage (Vos): 5mV; Output Current per Channel: 100pA; Max Power Dissipation: 570mW; Dual Supply Voltage: 9V; Operating Supply Voltage: 28V; Amplifier Type: COMPARATOR; Supplier 1: Avnet; RoHS: Yes; Category: Comparators; Stock 1: 10000; Pricing 1: 2500=0.10153, 5000=0.09878, 10000=0.09604, 15000=0.0933, 20000=0.09055, 25000=0.08781, 250000=0.08506 (USD); Case/Package: SOIC; Number of Pins: 8; Min Operating Temperature: 0°C; Max Operating Temperature: 70°C; Packaging: Tape and Reel; Number of Channels: 2; Package Quantity: 2500; Max Input Current: 250nA; Series: -; Max Supply Current: 1mA; Technology: BIPOLAR; Type: General Purpose; Power Dissipation: 570mW; Nominal Supply Voltage (DC): 18V; Length: 5mm; Width: 4mm; Height: 1.5mm; Radiation Hardening: No; Lead Free: Lead Free; RoHS Compliant: Yes; Reach SVHC Compliant: No; Halogen Free: Halogen Free; ComponentLink1URL: https://datasheet.ciiva.com/15130/getdatasheetpartid-93999-15130793.pdf?src-supplier=Verical; ComponentLink1Description: https://datasheet.ciiva.com/15130/getdatasheetpartid-93999-15130793.pdf?src-supplier=Verical; ComponentLink2URL: https://datasheet.ciiva.com/34301/886534-34301655.pdf?src-supplier=Jameco; ComponentLink2Description: https://datasheet.ciiva.com/34301/886534-34301655.pdf?src-supplier=Jameco; ComponentLink3URL: https://datasheet.ciiva.com/1827/lm393-d-1827228.pdf?src-supplier=Digi-Key; ComponentLink3Description: https://datasheet.ciiva.com/1827/lm393-d-1827228.pdf?src-supplier=Digi-Key; ComponentLink4URL: https://datasheet.ciiva.com/1827/lm393-d-1827229.pdf?src-supplier=Digi-Key; ComponentLink4Description: https://datasheet.ciiva.com/1827/lm393-d-1827229.pdf?src-supplier=Digi-Key; ComponentLink5URL: https://datasheet.ciiva.com/1827/lm393-d-1827230.pdf?src-supplier=Digi-Key; ComponentLink5Description: https://datasheet.ciiva.com/1827/lm393-d-1827230.pdf?src-supplier=Digi-Key; ComponentLink6URL: https://datasheet.ciiva.com/16942/70100188-16942202.pdf?src-supplier=Allied+Electronics; ComponentLink6Description: https://datasheet.ciiva.com/16942/70100188-16942202.pdf?src-supplier=Allied+Electronics; ComponentLink7URL: https://datasheet.ciiva.com/2970/lm393-d-2970519.pdf?src-supplier=Avnet; ComponentLink7Description: https://datasheet.ciiva.com/2970/lm393-d-2970519.pdf?src-supplier=Avnet; ComponentLink8URL: https://datasheet.ciiva.com/2970/lm393-d-2970881.pdf?src-supplier=Avnet; ComponentLink8Description: https://datasheet.ciiva.com/2970/lm393-d-2970881.pdf?src-supplier=Avnet; Supplier Part Number 1: LM393DR2G
footprint SOIC-8 (SOP, 8-Leads, Body 5.0x4.0mm (max), Pitch 1.27mm, IPC Medium Density)
part A pins: 1 OUT, 2 IN-, 3 IN+, 4 V- (power), 8 V+ (power)
part B pins: 5 IN+, 6 IN-, 7 OUT
part A text: Vcc; Vee

## IC GATE DRVR EG3112 HALF-BRIDGE 8 SO
designator U?, comment EG3112
600 V high-side and low-side gate driver IC with shutdown, SO 8, RoHS; Manufacturer: Infineon; Manufacturer Part Number: IR2113PBF; Number of Drivers: 2; Max Output Current: 2.5A; Min Supply Voltage: 10V; Max Supply Voltage: 20V; Propagation Delay: 120ns; Fall Time: 25ns; Output Voltage: 620V; Supplier 1: Mouser; RoHS: Yes; Category: Gate Drivers; Stock 1: 427; Pricing 1: 1=4.69, 10=4.21, 50=4.21, 100=3.45, 250=3.27, 500=2.94, 1000=2.48, 1500=2.35, 4500=2.26, 10000=2.35 (USD); Mount: Through Hole; Case/Package: PDIP; Number of Pins: 14; Min Operating Temperature: -40°C; Max Operating Temperature: 125°C; Number of Outputs: 2; Output Current: 2.5A; Number of Channels: 2; Length: 0.794inch; Width: 0.28inch; Height: 0.194inch; RoHS Compliant: Yes; Reach SVHC Compliant: No; Lead Free: Lead Free; Halogen Free: Not Halogen Free; Supplier Part Number 1: 942-IR2113PBF
footprint SOIC-8 (SOP, 8-Leads, Body 5.0x4.0mm (max), Pitch 1.27mm, IPC Medium Density)
pins: 1 VCC, 2 HIN, 3 LIN, 4 GND, 5 LO, 6 VS, 7 HO, 8 VB

## IC GATE DRVR IR2113PBF HALF-BRIDGE 16SOIC
designator U?, comment IR2113STRPBF
600 V high-side and low-side gate driver IC with shutdown, SOIC 16W, RoHS; Manufacturer: Infineon; Manufacturer Part Number: IR2113PBF; Number of Drivers: 2; Max Output Current: 2.5A; Min Supply Voltage: 10V; Max Supply Voltage: 20V; Propagation Delay: 120ns; Fall Time: 25ns; Output Voltage: 620V; Supplier 1: Mouser; RoHS: Yes; Category: Gate Drivers; Stock 1: 427; Pricing 1: 1=4.69, 10=4.21, 50=4.21, 100=3.45, 250=3.27, 500=2.94, 1000=2.48, 1500=2.35, 4500=2.26, 10000=2.35 (USD); Mount: Through Hole; Case/Package: PDIP; Number of Pins: 14; Min Operating Temperature: -40°C; Max Operating Temperature: 125°C; Number of Outputs: 2; Output Current: 2.5A; Number of Channels: 2; Length: 0.794inch; Width: 0.28inch; Height: 0.194inch; RoHS Compliant: Yes; Reach SVHC Compliant: No; Lead Free: Lead Free; Halogen Free: Not Halogen Free; Supplier Part Number 1: 942-IR2113PBF
footprint SOIC-16 7.5x10.3_P1.27mm
pins: 1 LO, 2 COM, 3 VCC, 4 NC, 5 NC, 6 VS, 7 VB, 8 HO, 9 NC, 10 NC, 11 VDD, 12 HIN, 13 SD, 14 LIN, 15 VSS, 16 NC

## IC GATE DRVR NCP5106 HALF-BRIDGE 8SOIC
designator U?, comment NCP5106ADR2G
NCP5106ADR2G; Dual MOSFET Power Driver; 0.5A Half Bridge; 10 to 20V; ; 8-Pin SOIC; Manufacturer: ON Semiconductor; Number of Outputs: 2; Max Output Current: 500mA; Min Supply Voltage: -300mV; Propagation Delay: 170ns; Rise Time: 160ns; Max Power Dissipation: 178W; Fall Time: 75ns; Max Supply Current: 5mA; Output Impedance: 10R; Supplier 1: Arrow Electronics; Manufacturer Part Number: NCP5106ADR2G; RoHS: Yes; Category: Gate Drivers; Stock 1: 5000; Pricing 1: 2500=0.5554, 5000=0.5223, 12500=0.5218 (USD); Mount: Surface Mount; Case/Package: SOIC; Number of Pins: 8; Min Operating Temperature: -40°C; Max Operating Temperature: 150°C; Packaging: Tape and Reel; Output Voltage: 20V; Package Quantity: 1; Max Supply Voltage: 20V; Number of Drivers: 2; Termination: SMD/SMT; Turn-On Delay Time: 170ns; Series: -; Supply Current: 5mA; Length: 0.196inch; Width: 0.157inch; Height: 0.059inch; Radiation Hardening: No; Reach SVHC Compliant: No; Lead Free: Lead Free; Halogen Free: Halogen Free; RoHS Compliant: Yes; ComponentLink1URL: https://datasheet.ciiva.com/30476/0900766b8125110e-30476723.pdf?src-supplier=Rs; ComponentLink1Description: https://datasheet.ciiva.com/30476/0900766b8125110e-30476723.pdf?src-supplier=Rs; ComponentLink2URL: https://datasheet.ciiva.com/1950/ncp5106-d-1950065.pdf?src-supplier=Digi-Key; ComponentLink2Description: https://datasheet.ciiva.com/1950/ncp5106-d-1950065.pdf?src-supplier=Digi-Key; ComponentLink3URL: https://datasheet.ciiva.com/3226/ncp5106-d-3226514.pdf?src-supplier=Avnet; ComponentLink3Description: https://datasheet.ciiva.com/3226/ncp5106-d-3226514.pdf?src-supplier=Avnet; ComponentLink4URL: https://datasheet.ciiva.com/15109/getdatasheetpartid-53075-15109828.pdf?src-supplier=Verical; ComponentLink4Description: https://datasheet.ciiva.com/15109/getdatasheetpartid-53075-15109828.pdf?src-supplier=Verical; ComponentLink5URL: https://datasheet.ciiva.com/16469/ncp5106-d-16469608.pdf?src-supplier=Future+Electronics; ComponentLink5Description: https://datasheet.ciiva.com/16469/ncp5106-d-16469608.pdf?src-supplier=Future+Electronics; ComponentLink6URL: https://datasheet.ciiva.com/22725/ncp5106-d-22725278.pdf?src-supplier=Element14; ComponentLink6Description: https://datasheet.ciiva.com/22725/ncp5106-d-22725278.pdf?src-supplier=Element14; ComponentLink7URL: https://datasheet.ciiva.com/7653/ncp5106-d-7653100.pdf?src-supplier=Element14; ComponentLink7Description: https://datasheet.ciiva.com/7653/ncp5106-d-7653100.pdf?src-supplier=Element14; ComponentLink8URL: https://datasheet.ciiva.com/1950/ncp5106-d-1950066.pdf?src-supplier=Digi-Key; ComponentLink8Description: https://datasheet.ciiva.com/1950/ncp5106-d-1950066.pdf?src-supplier=Digi-Key; ComponentLink9URL: https://datasheet.ciiva.com/1950/ncp5106-d-1950067.pdf?src-supplier=Digi-Key; ComponentLink9Description: https://datasheet.ciiva.com/1950/ncp5106-d-1950067.pdf?src-supplier=Digi-Key; ComponentLink10URL: https://datasheet.ciiva.com/5830/ncp5106-d-5830902.pdf?src-supplier=Farnell; ComponentLink10Description: https://datasheet.ciiva.com/5830/ncp5106-d-5830902.pdf?src-supplier=Farnell; Supplier Part Number 1: NCP5106ADR2G
footprint SOIC-8 (SOP, 8-Leads, Body 5.0x4.0mm (max), Pitch 1.27mm, IPC Medium Density)
pins: 1 VCC, 2 IN_HI, 3 IN_LO, 4 GND, 5 DRV_LO, 6 BRIDGE, 7 DRV_HI, 8 VBOOT

## IC HT32F52220 SSOP24
designator U?, comment HT32F52220
32-Bit Arm® Cortex®-M0+ Microcontroller,up to 32 KB Flash and 4 KB SRAM with 1 MSPS ADC,USART, UART, SPI, I2C, GPTM, SCTM, BFTM, WDT
pins: 1 PB7, 2 PB8, 3 VDDA, 4 PA0, 5 PA1, 6 PA2, 7 PA3, 8 PA4, 9 PA5, 10 CLDO, 11 VDD, 12 VSS, 13 NRST, 14 PB12, 15 PB13/XIN, 16 PB14/XOUT, 17 PA9/XBOOT, 18 PA12/SWCLK, 19 PA13/SWDIO, 20 PB0, 21 PB1, 22 PB2, 23 PB3, 24 PB4

## IC HUB USB2422 CTLR USB 2.0 24QFN
designator U?, comment USB2422
Microchip USB2422-I/MJ; USB Controller; USB 2.0; 3 - 3.6 V; 24-Pin SQFN; Interface: I2C,USB,SMBus; Min Supply Voltage: 3V; Max Supply Voltage: 3.6V; Operating Supply Voltage: 3.3V; Data Rate: 480Mbps; Operating Supply Current: 70mA; Number of Ports: 2; Number of Transceivers: 1; ESD Protection: Yes; Supplier 1: Digi-Key; Manufacturer: Microchip; Manufacturer Part Number: USB2422-I/MJ; Stock 1: 1601; Pricing 1: 1=2.46, 25=2.1016 (USD); Mount: Surface Mount; Case/Package: QFN; Number of Pins: 24; Min Operating Temperature: -40°C; Max Operating Temperature: 85°C; Packaging: Tray; Package Quantity: 490; Number of Channels: 2; Series: -; Length: 4.1mm; Width: 4.1mm; Height: 0.95mm; Radiation Hardening: No; Reach SVHC Compliant: Yes; Lead Free: Lead Free; ComponentLink1URL: https://datasheet.ciiva.com/24156/2422-24156145.pdf?src-supplier=Mouser; ComponentLink1Description: https://datasheet.ciiva.com/24156/2422-24156145.pdf?src-supplier=Mouser; ComponentLink2URL: https://datasheet.ciiva.com/26928/getdatasheetpartid-772338-26928466.pdf?src-supplier=Verical; ComponentLink2Description: https://datasheet.ciiva.com/26928/getdatasheetpartid-772338-26928466.pdf?src-supplier=Verical; ComponentLink3URL: https://datasheet.ciiva.com/46407/1807877-46407658.pdf?src-supplier=Element14; ComponentLink3Description: https://datasheet.ciiva.com/46407/1807877-46407658.pdf?src-supplier=Element14; Supplier Part Number 1: USB2422-I/MJ-ND
footprint SQFN24_4X4MC_MCH
pins: 1 VDD33, 2 USBDM_DN1*PART_DIS_M1, 3 USBDP_DN1*PART_DIS_P1, 4 USBDM_DN1*PART_DIS_M2, 5 USBDP_DN1*PART_DIS_P2, 6 NC, 7 PRTPWR1*(BC_EM1), 8 OCS1_N, 9 VDD33, 10 CRFILT, 11 PRTPWR2, 12 OCS2_N, 13 SMBDATA*NON_REM1, 14 SMBCLK*CFG_SEL0, 15 RESET_N, 16 VBUS_DET, 17 SUSP_IND*LOCAL_PWR*(NON_REM0), 18 VDD33, 19 USBDM_UP, 20 USBDP_UP, 21 XTAOUT*(CLKIN_EM), 22 XTALIN*CLKIN, 23 PLLFILT, 24 RBIAS, 25 EPAD

## IC L6699 OFFLINE SW HALF-BRIDGE 16SO
designator U?, comment L6699D
Converter Offline Half-Bridge Topology 60kHz ~ 235kHz 16-SO; Manufacturer: Mouser Electronics; Manufacturer Part Number: LOGIN; Get more results: Please configure for MyMouser login credentials; Product Status: New Product; Output Voltage: 13.3V; Min Supply Voltage: 8.85V; Max Supply Voltage: 16V; Max Duty Cycle: 50%; Number of Outputs: 1; Breakdown Voltage: 600V; Isolation: Non-Isolated; Supply Current: 3mA; Supplier 1: Mouser; RoHS: RoHS Compliant; Category: Daily Limit Reached; Stock 1: 0; Pricing 1: 1=0.00 (USD); Create Account URL: https://www.mouser.com/MyMouser/CreateAccount.aspx; Login URL: https://www.mouser.com/MyMouser/MouserLogin.aspx; Minimum Order Quantity: 1; Reeling: False; Supplier Part Number 1: Anonymous Daily Limit Reached; Supplier 2: Avnet; Pricing 2: 2500=1.42546, 5000=1.39607, 10000=1.36668 (USD); Mount: Surface Mount; Case/Package: SO; Number of Pins: 16; Min Operating Temperature: -40°C; Max Operating Temperature: 150°C; Package Quantity: 1; Packaging: Tape and Reel; Switching Frequency: 235kHz; Series: -; Length: 9.9mm; Radiation Hardening: No; Reach SVHC Compliant: No; Lead Free: Lead Free; RoHS Compliant: Yes; ComponentLink1URL: https://datasheet.ciiva.com/6613/dm00048921-6613351.pdf?src-supplier=Digi-Key; ComponentLink1Description: https://datasheet.ciiva.com/6613/dm00048921-6613351.pdf?src-supplier=Digi-Key; ComponentLink2URL: https://datasheet.ciiva.com/12238/dm00048921-12238425.pdf?src-supplier=Mouser; ComponentLink2Description: https://datasheet.ciiva.com/12238/dm00048921-12238425.pdf?src-supplier=Mouser; Supplier Part Number 2: L6699DTR
footprint 16-SO
pins: 1 CSS, 2 DELAY, 3 CF, 4 RFMIN, 5 STBY, 6 ISEN, 7 LINE, 8 DIS, 9 PFC-STOP, 10 GND, 11 LVG, 12 VCC, 13 NC, 14 OUT, 15 HVG, 16 VBOOT

## IC LINEAR VOLTAGE REGULAT AMS1117-ADJ SOT223-3L
designator U?, comment AMS1117
Linear Voltage Regulator IC Positive Fixed 1 Output 1A SOT-223-3L
footprint SOT223 (mounted package with increased heatsink; 4  leads)
pins: 1 ADJ, 2 VOUT, 3 VIN

## IC LINEAR VOLTAGE REGULATOR POSITIVE FIXED 1 OUTPUT 1A TO-252
designator U?, comment 78M05
IC, LINEAR VOLTAGE REGULATOR, 5V, DPAK-3; Input Voltage Min: 10V; Max: 35V; Output; Manufacturer: STMicroelectronics; Manufacturer Part Number: L78M05CDT-TR; Number of Outputs: 1; Min Input Voltage: 7V; Output Current: 500mA; Polarity: Positive; Power Supply Rejection Ratio (PSRR): 62dB; Output Type: Fixed; Quiescent Current: 6mA; Dropout Voltage: 2V; Tolerance: 5%; Supplier 1: Mouser; RoHS: Yes; Category: Voltage Regulators - Linear; Stock 1: 44624; Pricing 1: 1=0.71, 10=0.589, 50=0.589, 100=0.479, 250=0.447, 500=0.381, 1000=0.297, 2500=0.265, 5000=0.262, 10000=0.261 (USD); Mount: Surface Mount; Case/Package: TO-252; Number of Pins: 3; Min Operating Temperature: 0°C; Max Operating Temperature: 150°C; Packaging: Tape and Reel; Max Input Voltage: 35V; Output Voltage: 5V; Number of Regulators: 1; Series: -; Nominal Output Voltage: 5V; Max Output Current: 500mA; Min Output Voltage: 5V; Output Configuration: Positive; Package Quantity: 2500; Max Output Voltage: 5V; Length: 6.6mm; Width: 6.2mm; Height: 2.4mm; Radiation Hardening: No; Lead Free: Lead Free; RoHS Compliant: Yes; Reach SVHC Compliant: No; Supplier Part Number 1: 511-L78M05CDT-TR
footprint TO-252 (TO252, 4-Leads, Body 6.7x10.4mm (max), Pitch 2.28mm, IPC Medium Density)
pins: 1 INPUT, 2 GND, 3 OUTPUT

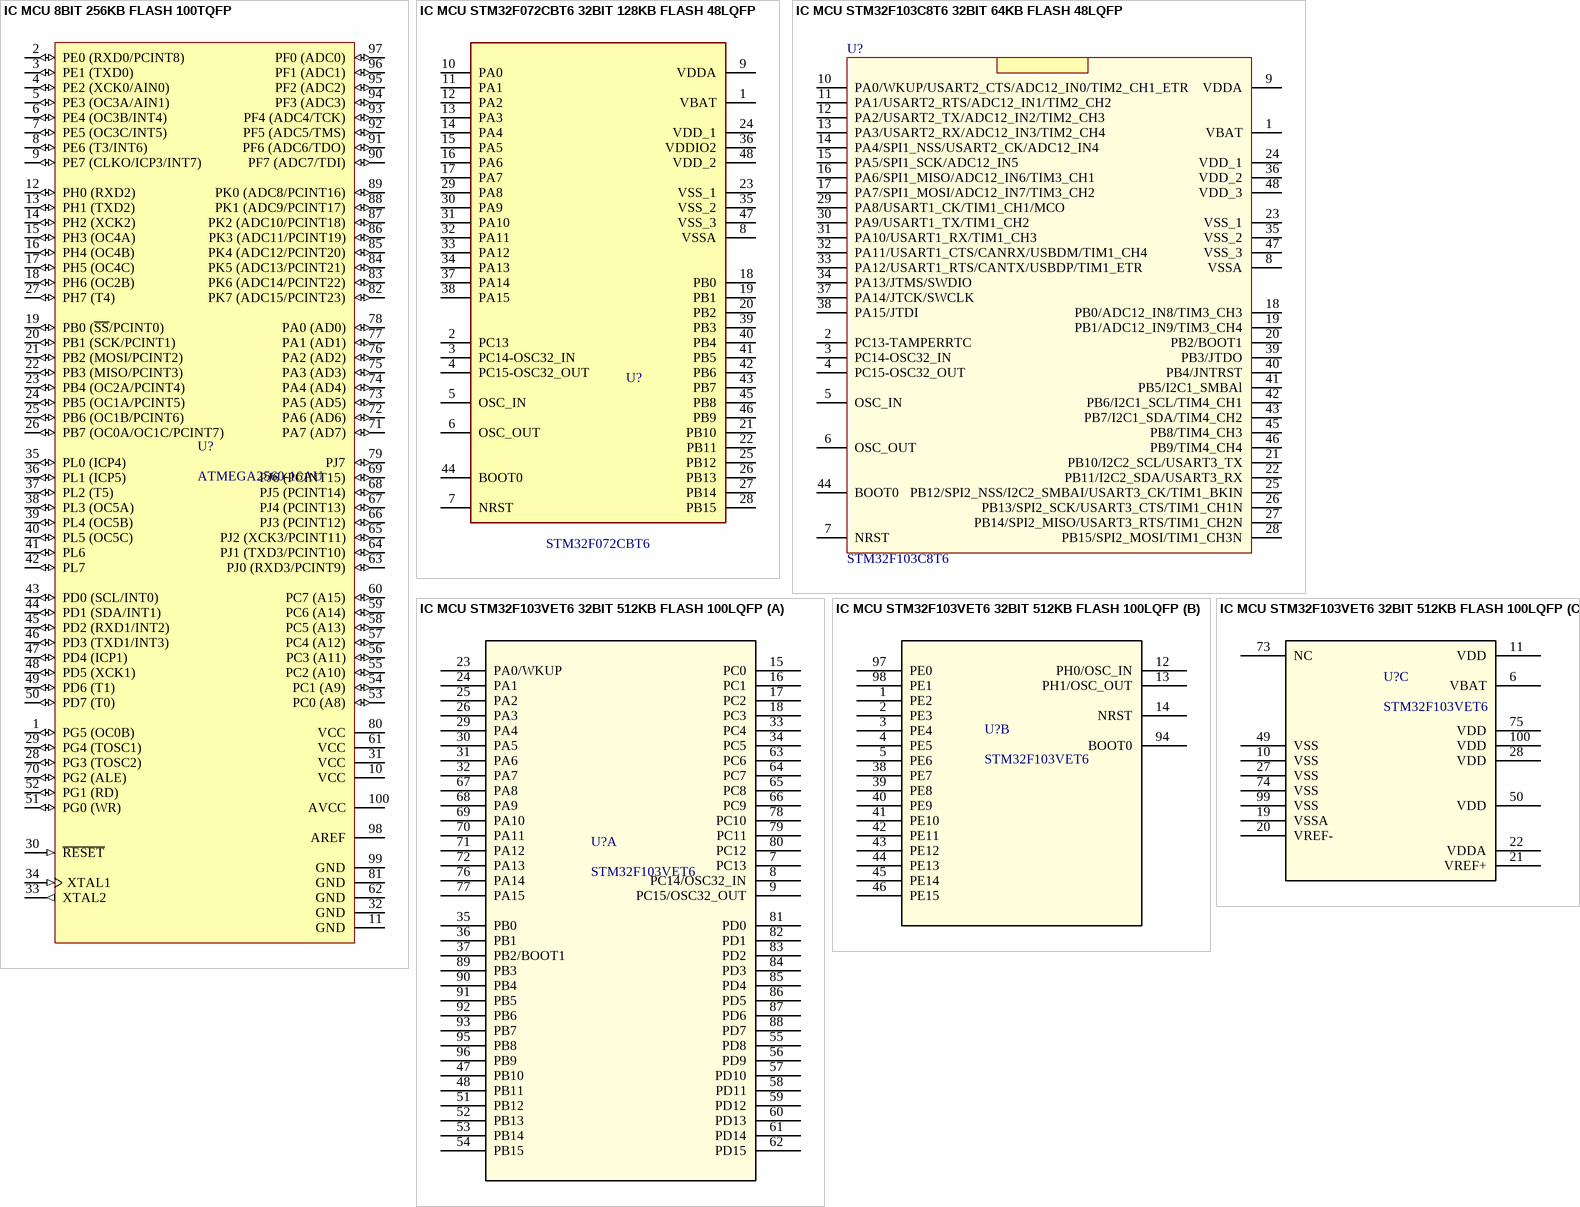
[diagram p3: symbols IC MCU 8BIT 256KB FLASH 100TQFP to IC MCU STM32F103VET6 32BIT 512KB FLASH 100LQFP]